# Altium schematic symbol library DS2715.SchLib: 2 symbols
Pins are listed as number, name and electrical type; pins without a type are passive.

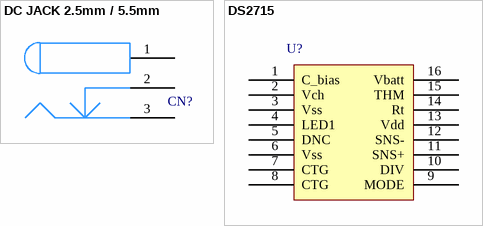
[diagram p0: symbols DC JACK 2.5mm / 5.5mm to DS2715]

## DC JACK 2.5mm / 5.5mm
designator CN?  (value not drawn)
DC JACK
pins: 1, 2, 3

## DS2715
designator U?  (value not drawn)
pins: 1 C_bias, 2 Vch, 3 Vss, 4 LED1, 5 DNC, 6 Vss, 7 CTG, 8 CTG, 9 MODE, 10 DIV, 11 SNS+, 12 SNS-, 13 Vdd, 14 Rt, 15 THM, 16 Vbatt